# Altium footprint library ES02MCBE.PcbLib: 1 footprints
Each footprint in its own frame and in the unit in brackets; x right, y up, seen from the top. Pads: shape width x height; smd on the part's side, far side on the other; paste and mask are expansions set on the pad; w line width, h text height; cw(c..) or ccw(c..) is an arc to the next point about the centre after c.
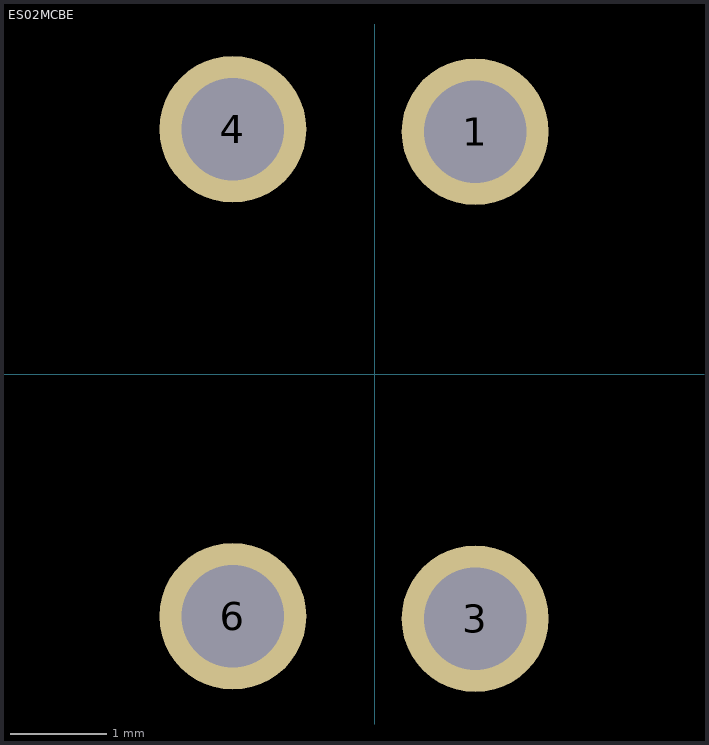
[diagram p0: the footprint, top view; thin cyan lines are the x and y axes]

## ES02MCBE [mil]
pads (4):
  round 60 hole 42: 1(41,99) 3(41,-100) 4(-58,100) 6(-58,-99)
3D body: height 480.71, standoff -118.11, extent -127.15,-198 126,196.88